# Altium integrated library mcu.IntLib: 53 symbols (part 1 of 3)
Pins are listed as number, name and electrical type; pins without a type are passive.

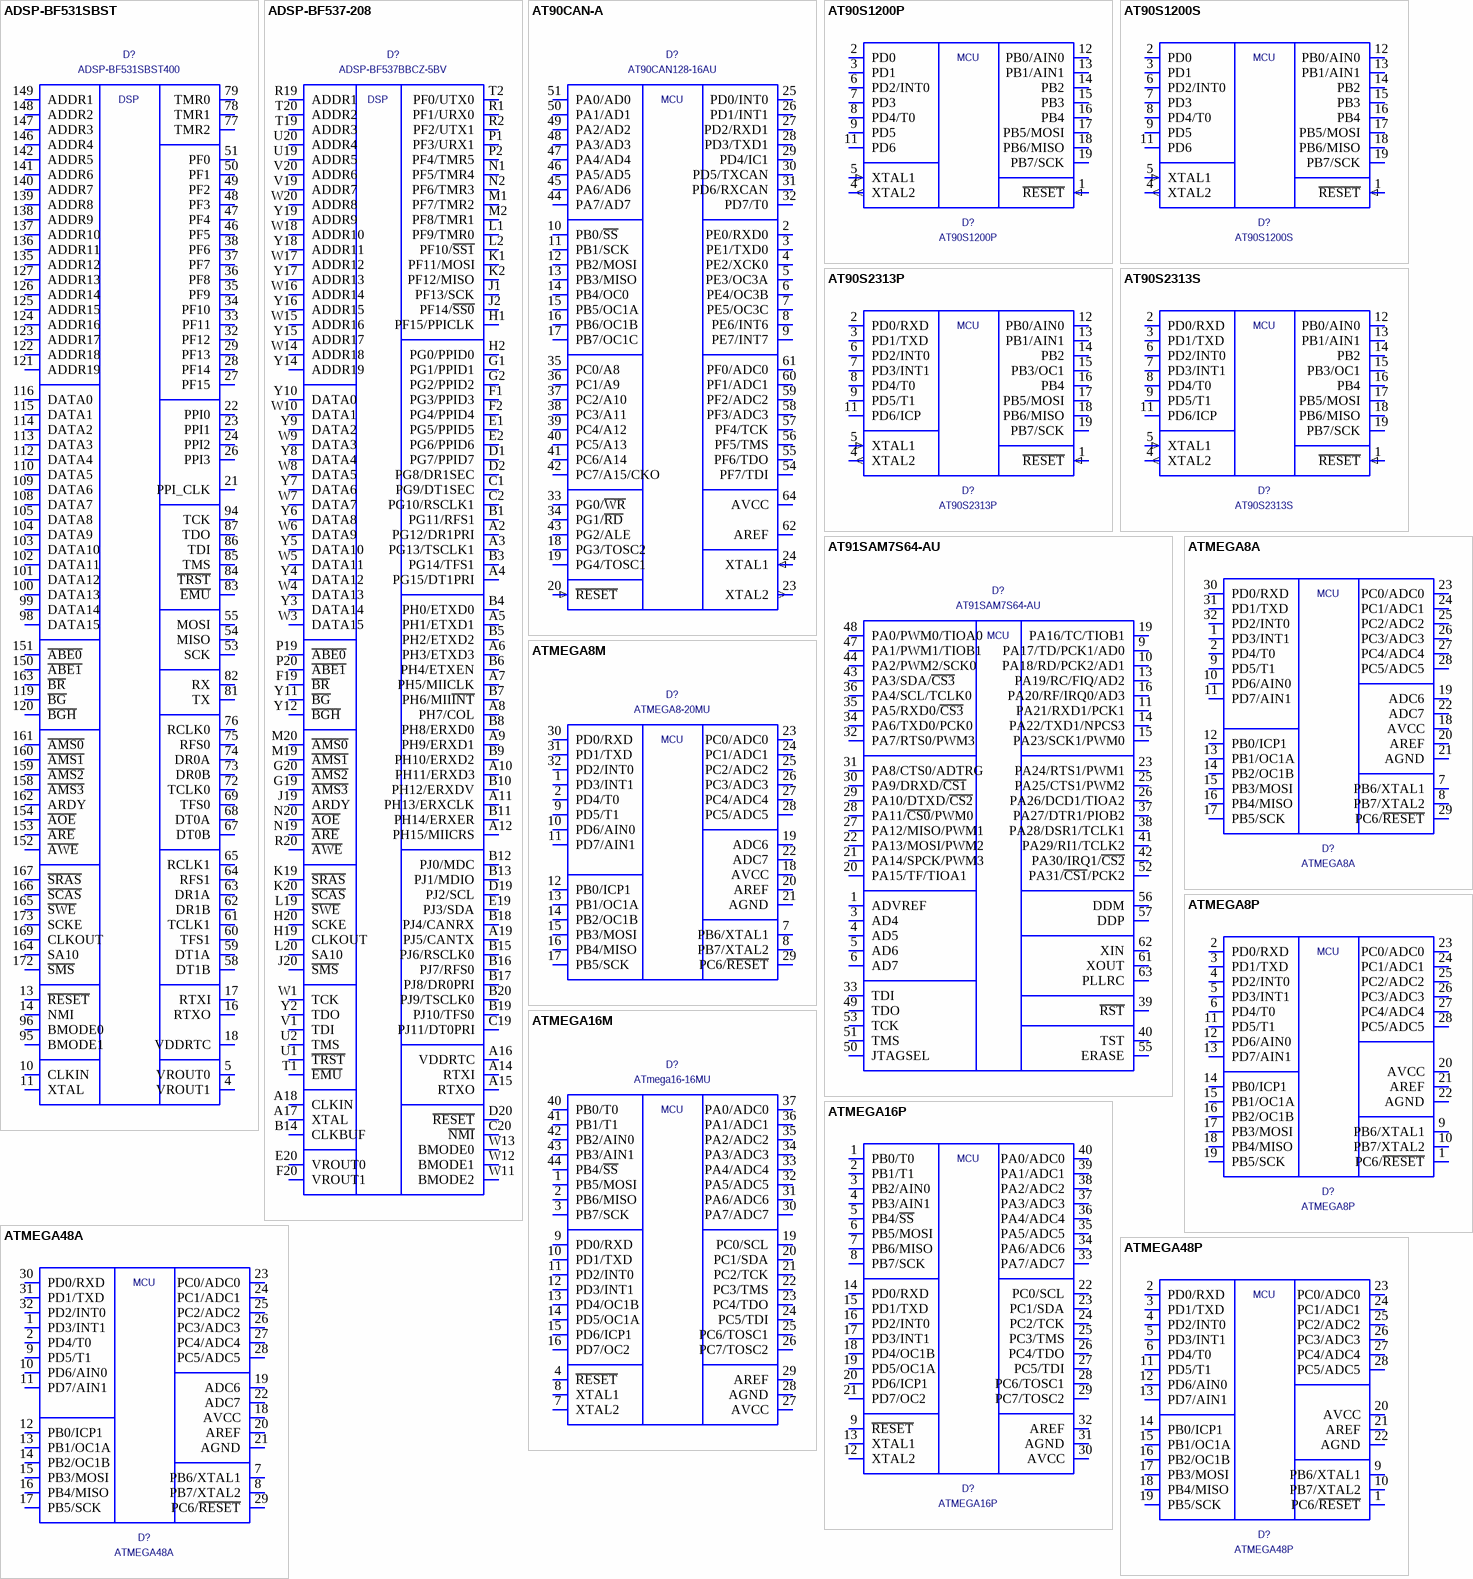
[diagram p0: symbols ADSP-BF531SBST to ATMEGA48P]

## ADSP-BF531SBST
designator D?  value ADSP-BF531SBST400  (hidden comment: ADSP-BF531SBST)
footprint LQFP176
pins: 1 GND (power) hidden, 2 GND (power) hidden, 3 GND (power) hidden, 4 VROUT1, 5 VROUT0, 6 VDDEXT (power) hidden, 7 GND (power) hidden, 8 GND (power) hidden, 9 GND (power) hidden, 10 CLKIN, 11 XTAL, 12 VDDEXT (power) hidden, 13 ~{RESET}, 14 NMI, 15 GND (power) hidden, 16 RTXO, 17 RTXI, 18 VDDRTC, 19 GND (power) hidden, 20 VDDEXT (power) hidden, 21 PPI_CLK, 22 PPI0, 23 PPI1, 24 PPI2, 25 VDDINT (power) hidden, 26 PPI3, 27 PF15, 28 PF14, 29 PF13, 30 GND (power) hidden, 31 VDDEXT (power) hidden, 32 PF12, 33 PF11, 34 PF10, 35 PF9, 36 PF8, 37 PF7, 38 PF6, 39 GND (power) hidden, 40 GND (power) hidden, 41 GND (power) hidden, 42 GND (power) hidden, 43 GND (power) hidden, 44 GND (power) hidden, 45 VDDEXT (power) hidden, 46 PF5, 47 PF4, 48 PF3, 49 PF2, 50 PF1, 51 PF0, 52 VDDINT (power) hidden, 53 SCK, 54 MISO, 55 MOSI, 56 GND (power) hidden, 57 VDDEXT (power) hidden, 58 DT1B, 59 DT1A, 60 TFS1, 61 TCLK1, 62 DR1B, 63 DR1A, 64 RFS1, 65 RCLK1, 66 VDDINT (power) hidden, 67 DT0B, 68 DT0A, 69 TFS0, 70 GND (power) hidden, 71 VDDEXT (power) hidden, 72 TCLK0, 73 DR0B, 74 DR0A, 75 RFS0, 76 RCLK0, 77 TMR2, 78 TMR1, 79 TMR0, 80 VDDINT (power) hidden, 81 TX, 82 RX, 83 ~{EMU}, 84 ~{TRST}, 85 TMS, 86 TDI, 87 TDO, 88 GND (power) hidden, 89 GND (power) hidden, 90 GND (power) hidden, 91 GND (power) hidden, 92 GND (power) hidden, 93 VDDEXT (power) hidden, 94 TCK, 95 BMODE1, 96 BMODE0, 97 GND (power) hidden, 98 DATA15, 99 DATA14, 100 DATA13, 101 DATA12, 102 DATA11, 103 DATA10, 104 DATA9, 105 DATA8, 106 GND (power) hidden, 107 VDDEXT (power) hidden, 108 DATA7, 109 DATA6, 110 DATA5, 111 VDDINT (power) hidden, 112 DATA4, 113 DATA3, 114 DATA2, 115 DATA1, 116 DATA0, 117 GND (power) hidden, 118 VDDEXT (power) hidden, 119 ~{BG}, 120 ~{BGH}, 121 ADDR19, 122 ADDR18, 123 ADDR17, 124 ADDR16, 125 ADDR15, 126 ADDR14, 127 ADDR13, 128 GND (power) hidden, 129 GND (power) hidden, 130 GND (power) hidden, 131 GND (power) hidden, 132 GND (power) hidden, 133 GND (power) hidden, 134 VDDEXT (power) hidden, 135 ADDR12, 136 ADDR11, 137 ADDR10, 138 ADDR9, 139 ADDR8, 140 ADDR7, 141 ADDR6, 142 ADDR5, 143 VDDINT (power) hidden, 144 GND (power) hidden, 145 VDDEXT (power) hidden, 146 ADDR4, 147 ADDR3, 148 ADDR2, 149 ADDR1, 150 ~{ABE1}, 151 ~{ABE0}, 152 ~{AWE}, 153 ~{ARE}, 154 ~{AOE}, 155 GND (power) hidden, 156 VDDEXT (power) hidden, 157 VDDINT (power) hidden, 158 ~{AMS3}, 159 ~{AMS2}, 160 ~{AMS1}, 161 ~{AMS0}, 162 ARDY, 163 ~{BR}, 164 SA10, 165 ~{SWE}, 166 ~{SCAS}, 167 ~{SRAS}, 168 VDDINT (power) hidden, 169 CLKOUT, 170 GND (power) hidden, 171 VDDEXT (power) hidden, 172 ~{SMS}, 173 SCKE, 174 GND (power) hidden, 175 GND (power) hidden, 176 GND (power) hidden
text: DSP

## ADSP-BF537-208
designator D?  value ADSP-BF537BBCZ-5BV  (hidden comment: ADSP-BF537-208)
footprint BC-208
pins: A1 GND (power) hidden, A2 PG12/DR1PRI, A3 PG13/TSCLK1, A4 PG15/DT1PRI, A5 PH1/ETXD1, A6 PH3/ETXD3, A7 PH5/MIICLK, A8 PH7/COL, A9 PH9/ERXD1, A10 PH11/ERXD3, A11 PH13/ERXCLK, A12 PH15/MIICRS, A13 GND (power) hidden, A14 RTXI, A15 RTXO, A16 VDDRTC, A17 XTAL, A18 CLKIN, A19 PJ5/CANTX, A20 GND (power) hidden, B1 PG11/RFS1, B2 GND (power) hidden, B3 PG14/TFS1, B4 PH0/ETXD0, B5 PH2/ETXD2, B6 PH4/ETXEN, B7 PH6/MII~{INT}, B8 PH8/ERXD0, B9 PH10/ERXD2, B10 PH12/ERXDV, B11 PH14/ERXER, B12 PJ0/MDC, B13 PJ1/MDIO, B14 CLKBUF, B15 PJ6/RSCLK0, B16 PJ7/RFS0, B17 PJ8/DR0PRI, B18 PJ4/CANRX, B19 PJ10/TFS0, B20 PJ9/TSCLK0, C1 PG9/DT1SEC, C2 PG10/RSCLK1, C19 PJ11/DT0PRI, C20 ~{NMI}, D1 PG7/PPID7, D2 PG8/DR1SEC, D19 PJ2/SCL, D20 ~{RESET}, E1 PG5/PPID5, E2 PG6/PPID6, E19 PJ3/SDA, E20 VROUT0, F1 PG3/PPID3, F2 PG4/PPID4, F19 ~{BR}, F20 VROUT1, G1 PG1/PPID1, G2 PG2/PPID2, G7 VDDEXT (power) hidden, G8 VDDEXT (power) hidden, G9 VDDEXT (power) hidden, G10 VDDEXT (power) hidden, G11 GND (power) hidden, G12 VDDINT (power) hidden, G13 VDDINT (power) hidden, G14 VDDINT (power) hidden, G19 ~{AMS3}, G20 ~{AMS2}, H1 PF15/PPICLK, H2 PG0/PPID0, H7 VDDEXT (power) hidden, H8 VDDEXT (power) hidden, H9 GND (power) hidden, H10 GND (power) hidden, H11 GND (power) hidden, H12 GND (power) hidden, H13 GND (power) hidden, H14 VDDINT (power) hidden, H19 CLKOUT, H20 SCKE, J1 PF13/SCK, J2 PF14/~{SS0}, J7 VDDEXT (power) hidden, J8 VDDEXT (power) hidden, J9 GND (power) hidden, J10 GND (power) hidden, J11 GND (power) hidden, J12 GND (power) hidden, J13 GND (power) hidden, J14 VDDINT (power) hidden, J19 ARDY, J20 ~{SMS}, K1 PF11/MOSI, K2 PF12/MISO, K7 VDDEXT (power) hidden, K8 VDDEXT (power) hidden, K9 GND (power) hidden, K10 GND (power) hidden, K11 GND (power) hidden, K12 GND (power) hidden, K13 GND (power) hidden, K14 VDDINT (power) hidden, K19 ~{SRAS}, K20 ~{SCAS}, L1 PF9/TMR0, L2 PF10/~{SS1}, L7 VDDEXT (power) hidden, L8 VDDEXT (power) hidden, L9 GND (power) hidden, L10 GND (power) hidden, L11 GND (power) hidden, L12 GND (power) hidden, L13 GND (power) hidden, L14 VDDINT (power) hidden, L19 ~{SWE}, L20 SA10, M1 PF7/TMR2, M2 PF8/TMR1, M7 VDDEXT (power) hidden, M8 VDDEXT (power) hidden, M9 GND (power) hidden, M10 GND (power) hidden, M11 GND (power) hidden, M12 GND (power) hidden, M13 GND (power) hidden, M14 VDDINT (power) hidden, M19 ~{AMS1}, M20 ~{AMS0}, N1 PF5/TMR4, N2 PF6/TMR3, N7 VDDEXT (power) hidden, N8 VDDEXT (power) hidden, N9 GND (power) hidden, N10 GND (power) hidden, N11 GND (power) hidden, N12 GND (power) hidden, N13 GND (power) hidden, N14 VDDINT (power) hidden, N19 ~{ARE}, N20 ~{AOE}, P1 PF3/URX1, P2 PF4/TMR5, P7 VDDEXT (power) hidden, P8 VDDEXT (power) hidden, P9 VDDEXT (power) hidden, P10 VDDEXT (power) hidden, P11 GND (power) hidden, P12 VDDINT (power) hidden, P13 VDDINT (power) hidden, P14 VDDINT (power) hidden, P19 ~{ABE0}, P20 ~{ABE1}, R1 PF1/URX0, R2 PF2/UTX1, R19 ADDR1, R20 ~{AWE}, T1 ~{EMU}, T2 PF0/UTX0, T19 ADDR3, T20 ADDR2, U1 ~{TRST}, U2 TMS, U19 ADDR5, U20 ADDR4, V1 TDI, V2 GND (power) hidden, V19 ADDR7, V20 ADDR6, W1 TCK, W2 GND (power) hidden, W3 DATA15, W4 DATA13, W5 DATA11, W6 DATA9, W7 DATA7, W8 DATA5, W9 DATA3, W10 DATA1, W11 BMODE2, W12 BMODE1, W13 BMODE0, W14 ADDR18, W15 ADDR16, W16 ADDR14, W17 ADDR12, W18 ADDR10, W19 GND (power) hidden, W20 ADDR8, Y1 GND (power) hidden, Y2 TDO, Y3 DATA14, Y4 DATA12, Y5 DATA10, Y6 DATA8, Y7 DATA6, Y8 DATA4, Y9 DATA2, Y10 DATA0, Y11 ~{BG}, Y12 ~{BGH}, Y13 GND (power) hidden, Y14 ADDR19, Y15 ADDR17, Y16 ADDR15, Y17 ADDR13, Y18 ADDR11, Y19 ADDR9, Y20 GND (power) hidden
text: DSP

## AT90CAN-A
designator D?  value AT90CAN128-16AU  (hidden comment: AT90CAN-A)
footprint TQFP64
pins: 1 hidden, 2 PE0/RXD0 (io), 3 PE1/TXD0 (io), 4 PE2/XCK0 (io), 5 PE3/OC3A (io), 6 PE4/OC3B (io), 7 PE5/OC3C (io), 8 PE6/INT6 (io), 9 PE7/INT7 (io), 10 PB0/~{SS} (io), 11 PB1/SCK (io), 12 PB2/MOSI (io), 13 PB3/MISO (io), 14 PB4/OC0 (io), 15 PB5/OC1A (io), 16 PB6/OC1B (io), 17 PB7/OC1C (io), 18 PG3/TOSC2 (io), 19 PG4/TOSC1 (io), 20 ~{RESET} (in), 21 VCC (power) hidden, 22 GND (power) hidden, 23 XTAL2 (out), 24 XTAL1 (in), 25 PD0/INT0 (io), 26 PD1/INT1 (io), 27 PD2/RXD1 (io), 28 PD3/TXD1 (io), 29 PD4/IC1 (io), 30 PD5/TXCAN (io), 31 PD6/RXCAN (io), 32 PD7/T0 (io), 33 PG0/~{WR} (io), 34 PG1/~{RD} (io), 35 PC0/A8 (io), 36 PC1/A9 (io), 37 PC2/A10 (io), 38 PC3/A11 (io), 39 PC4/A12 (io), 40 PC5/A13 (io), 41 PC6/A14 (io), 42 PC7/A15/CKO (io), 43 PG2/ALE (io), 44 PA7/AD7 (io), 45 PA6/AD6 (io), 46 PA5/AD5 (io), 47 PA4/AD4 (io), 48 PA3/AD3 (io), 49 PA2/AD2 (io), 50 PA1/AD1 (io), 51 PA0/AD0 (io), 52 VCC (power) hidden, 53 GND (power) hidden, 54 PF7/TDI (io), 55 PF6/TDO (io), 56 PF5/TMS (io), 57 PF4/TCK (io), 58 PF3/ADC3 (io), 59 PF2/ADC2 (io), 60 PF1/ADC1 (io), 61 PF0/ADC0 (io), 62 AREF, 63 GND (power) hidden, 64 AVCC
text: MCU

## AT90S1200P
designator D?
Value: {Value}
footprint DIP20
pins: 1 ~{RESET} (in), 2 PD0 (io), 3 PD1 (io), 4 XTAL2 (out), 5 XTAL1 (in), 6 PD2/INT0 (io), 7 PD3 (io), 8 PD4/T0 (io), 9 PD5 (io), 10 GND (power) hidden, 11 PD6 (io), 12 PB0/AIN0 (io), 13 PB1/AIN1 (io), 14 PB2 (io), 15 PB3 (io), 16 PB4 (io), 17 PB5/MOSI (io), 18 PB6/MISO (io), 19 PB7/SCK (io), 20 VCC (power) hidden
text: MCU

## AT90S1200S
designator D?
Value: {Value}
footprint SO20W
pins: 1 ~{RESET} (in), 2 PD0 (io), 3 PD1 (io), 4 XTAL2 (out), 5 XTAL1 (in), 6 PD2/INT0 (io), 7 PD3 (io), 8 PD4/T0 (io), 9 PD5 (io), 10 GND (power) hidden, 11 PD6 (io), 12 PB0/AIN0 (io), 13 PB1/AIN1 (io), 14 PB2 (io), 15 PB3 (io), 16 PB4 (io), 17 PB5/MOSI (io), 18 PB6/MISO (io), 19 PB7/SCK (io), 20 VCC (power) hidden
text: MCU

## AT90S2313P
designator D?
Value: {Value}
footprint DIP20
pins: 1 ~{RESET} (in), 2 PD0/RXD (io), 3 PD1/TXD (io), 4 XTAL2 (out), 5 XTAL1 (in), 6 PD2/INT0 (io), 7 PD3/INT1 (io), 8 PD4/T0 (io), 9 PD5/T1 (io), 10 GND (power) hidden, 11 PD6/ICP (io), 12 PB0/AIN0 (io), 13 PB1/AIN1 (io), 14 PB2 (io), 15 PB3/OC1 (io), 16 PB4 (io), 17 PB5/MOSI (io), 18 PB6/MISO (io), 19 PB7/SCK (io), 20 VCC (power) hidden
text: MCU

## AT90S2313S
designator D?
Value: {Value}
footprint SO20W
pins: 1 ~{RESET} (in), 2 PD0/RXD (io), 3 PD1/TXD (io), 4 XTAL2 (out), 5 XTAL1 (in), 6 PD2/INT0 (io), 7 PD3/INT1 (io), 8 PD4/T0 (io), 9 PD5/T1 (io), 10 GND (power) hidden, 11 PD6/ICP (io), 12 PB0/AIN0 (io), 13 PB1/AIN1 (io), 14 PB2 (io), 15 PB3/OC1 (io), 16 PB4 (io), 17 PB5/MOSI (io), 18 PB6/MISO (io), 19 PB7/SCK (io), 20 VCC (power) hidden
text: MCU

## AT91SAM7S64-AU
designator D?
Value: AT91SAM7S64-AU
footprint LQFP64
pins: 1 ADVREF, 2 GND (power) hidden, 3 AD4, 4 AD5, 5 AD6, 6 AD7, 7 VIO (power) hidden, 8 VCORE (power) hidden, 9 PA17/TD/PCK1/AD0, 10 PA18/RD/PCK2/AD1, 11 PA21/RXD1/PCK1, 12 VCORE (power) hidden, 13 PA19/RC/FIQ/AD2, 14 PA22/TXD1/NPCS3, 15 PA23/SCK1/PWM0, 16 PA20/RF/IRQ0/AD3, 17 GND (power) hidden, 18 VIO (power) hidden, 19 PA16/TC/TIOB1, 20 PA15/TF/TIOA1, 21 PA14/SPCK/PWM3, 22 PA13/MOSI/PWM2, 23 PA24/RTS1/PWM1, 24 VCORE (power) hidden, 25 PA25/CTS1/PWM2, 26 PA26/DCD1/TIOA2, 27 PA12/MISO/PWM1, 28 PA11/~{CS0}/PWM0, 29 PA10/DTXD/~{CS2}, 30 PA9/DRXD/~{CS1}, 31 PA8/CTS0/ADTRG, 32 PA7/RTS0/PWM3, 33 TDI, 34 PA6/TXD0/PCK0, 35 PA5/RXD0/~{CS3}, 36 PA4/SCL/TCLK0, 37 PA27/DTR1/PIOB2, 38 PA28/DSR1/TCLK1, 39 ~{RST}, 40 TST, 41 PA29/RI1/TCLK2, 42 PA30/IRQ1/~{CS2}, 43 PA3/SDA/~{CS3}, 44 PA2/PWM2/SCK0, 45 VIO (power) hidden, 46 GND (power) hidden, 47 PA1/PWM1/TIOB1, 48 PA0/PWM0/TIOA0, 49 TDO, 50 JTAGSEL, 51 TMS, 52 PA31/~{CS1}/PCK2, 53 TCK, 54 VCORE (power) hidden, 55 ERASE, 56 DDM, 57 DDP, 58 VIO (power) hidden, 59 VIO (power) hidden, 60 GND (power) hidden, 61 XOUT, 62 XIN, 63 PLLRC, 64 VCORE (power) hidden
text: MCU

## ATMEGA8A
designator D?
Value: {Value}
footprint TQFP32
pins: 1 PD3/INT1, 2 PD4/T0, 3 GND (power) hidden, 4 VCC (power) hidden, 5 GND (power) hidden, 6 VCC (power) hidden, 7 PB6/XTAL1, 8 PB7/XTAL2, 9 PD5/T1, 10 PD6/AIN0, 11 PD7/AIN1, 12 PB0/ICP1, 13 PB1/OC1A, 14 PB2/OC1B, 15 PB3/MOSI, 16 PB4/MISO, 17 PB5/SCK, 18 AVCC, 19 ADC6, 20 AREF, 21 AGND, 22 ADC7, 23 PC0/ADC0, 24 PC1/ADC1, 25 PC2/ADC2, 26 PC3/ADC3, 27 PC4/ADC4, 28 PC5/ADC5, 29 PC6/~{RESET}, 30 PD0/RXD, 31 PD1/TXD, 32 PD2/INT0
text: MCU

## ATMEGA8M
designator D?, comment ATMEGA8-20MU
ATMEGA8M; Value: ATMEGA8-20MU
footprint MLF32
pins: 1 PD3/INT1, 2 PD4/T0, 3 GND (power) hidden, 4 VCC (power) hidden, 5 GND (power) hidden, 6 VCC (power) hidden, 7 PB6/XTAL1, 8 PB7/XTAL2, 9 PD5/T1, 10 PD6/AIN0, 11 PD7/AIN1, 12 PB0/ICP1, 13 PB1/OC1A, 14 PB2/OC1B, 15 PB3/MOSI, 16 PB4/MISO, 17 PB5/SCK, 18 AVCC, 19 ADC6, 20 AREF, 21 AGND, 22 ADC7, 23 PC0/ADC0, 24 PC1/ADC1, 25 PC2/ADC2, 26 PC3/ADC3, 27 PC4/ADC4, 28 PC5/ADC5, 29 PC6/~{RESET}, 30 PD0/RXD, 31 PD1/TXD, 32 PD2/INT0, EP GND (power) hidden
text: MCU

## ATMEGA8P
designator D?
Value: {Value}
footprint DIP28L
pins: 1 PC6/~{RESET}, 2 PD0/RXD, 3 PD1/TXD, 4 PD2/INT0, 5 PD3/INT1, 6 PD4/T0, 7 VCC (power) hidden, 8 GND (power) hidden, 9 PB6/XTAL1, 10 PB7/XTAL2, 11 PD5/T1, 12 PD6/AIN0, 13 PD7/AIN1, 14 PB0/ICP1, 15 PB1/OC1A, 16 PB2/OC1B, 17 PB3/MOSI, 18 PB4/MISO, 19 PB5/SCK, 20 AVCC, 21 AREF, 22 AGND, 23 PC0/ADC0, 24 PC1/ADC1, 25 PC2/ADC2, 26 PC3/ADC3, 27 PC4/ADC4, 28 PC5/ADC5
text: MCU

## ATMEGA16M
designator D?, comment ATmega16-16MU
ATMEGA16M; Value: ATmega16-16MU
footprint MLF44
pins: 1 PB5/MOSI, 2 PB6/MISO, 3 PB7/SCK, 4 ~{RESET}, 5 VCC (power) hidden, 6 GND (power) hidden, 7 XTAL2, 8 XTAL1, 9 PD0/RXD, 10 PD1/TXD, 11 PD2/INT0, 12 PD3/INT1, 13 PD4/OC1B, 14 PD5/OC1A, 15 PD6/ICP1, 16 PD7/OC2, 17 VCC (power) hidden, 18 GND (power) hidden, 19 PC0/SCL, 20 PC1/SDA, 21 PC2/TCK, 22 PC3/TMS, 23 PC4/TDO, 24 PC5/TDI, 25 PC6/TOSC1, 26 PC7/TOSC2, 27 AVCC, 28 AGND, 29 AREF, 30 PA7/ADC7, 31 PA6/ADC6, 32 PA5/ADC5, 33 PA4/ADC4, 34 PA3/ADC3, 35 PA2/ADC2, 36 PA1/ADC1, 37 PA0/ADC0, 38 VCC (power) hidden, 39 GND (power) hidden, 40 PB0/T0, 41 PB1/T1, 42 PB2/AIN0, 43 PB3/AIN1, 44 PB4/~{SS}, EP GND (power) hidden
text: MCU

## ATMEGA16P
designator D?
Value: {Value}
footprint DIP40
pins: 1 PB0/T0, 2 PB1/T1, 3 PB2/AIN0, 4 PB3/AIN1, 5 PB4/~{SS}, 6 PB5/MOSI, 7 PB6/MISO, 8 PB7/SCK, 9 ~{RESET}, 10 VCC (power) hidden, 11 GND (power) hidden, 12 XTAL2, 13 XTAL1, 14 PD0/RXD, 15 PD1/TXD, 16 PD2/INT0, 17 PD3/INT1, 18 PD4/OC1B, 19 PD5/OC1A, 20 PD6/ICP1, 21 PD7/OC2, 22 PC0/SCL, 23 PC1/SDA, 24 PC2/TCK, 25 PC3/TMS, 26 PC4/TDO, 27 PC5/TDI, 28 PC6/TOSC1, 29 PC7/TOSC2, 30 AVCC, 31 AGND, 32 AREF, 33 PA7/ADC7, 34 PA6/ADC6, 35 PA5/ADC5, 36 PA4/ADC4, 37 PA3/ADC3, 38 PA2/ADC2, 39 PA1/ADC1, 40 PA0/ADC0
text: MCU

## ATMEGA48A
designator D?
Value: ATmega48A
footprint TQFP32
pins: 1 PD3/INT1, 2 PD4/T0, 3 GND (power) hidden, 4 VCC (power) hidden, 5 GND (power) hidden, 6 VCC (power) hidden, 7 PB6/XTAL1, 8 PB7/XTAL2, 9 PD5/T1, 10 PD6/AIN0, 11 PD7/AIN1, 12 PB0/ICP1, 13 PB1/OC1A, 14 PB2/OC1B, 15 PB3/MOSI, 16 PB4/MISO, 17 PB5/SCK, 18 AVCC, 19 ADC6, 20 AREF, 21 AGND, 22 ADC7, 23 PC0/ADC0, 24 PC1/ADC1, 25 PC2/ADC2, 26 PC3/ADC3, 27 PC4/ADC4, 28 PC5/ADC5, 29 PC6/~{RESET}, 30 PD0/RXD, 31 PD1/TXD, 32 PD2/INT0
text: MCU

## ATMEGA48P
designator D?
Value: ATmega48P
footprint DIP28L
pins: 1 PC6/~{RESET}, 2 PD0/RXD, 3 PD1/TXD, 4 PD2/INT0, 5 PD3/INT1, 6 PD4/T0, 7 VCC (power) hidden, 8 GND (power) hidden, 9 PB6/XTAL1, 10 PB7/XTAL2, 11 PD5/T1, 12 PD6/AIN0, 13 PD7/AIN1, 14 PB0/ICP1, 15 PB1/OC1A, 16 PB2/OC1B, 17 PB3/MOSI, 18 PB4/MISO, 19 PB5/SCK, 20 AVCC, 21 AREF, 22 AGND, 23 PC0/ADC0, 24 PC1/ADC1, 25 PC2/ADC2, 26 PC3/ADC3, 27 PC4/ADC4, 28 PC5/ADC5
text: MCU

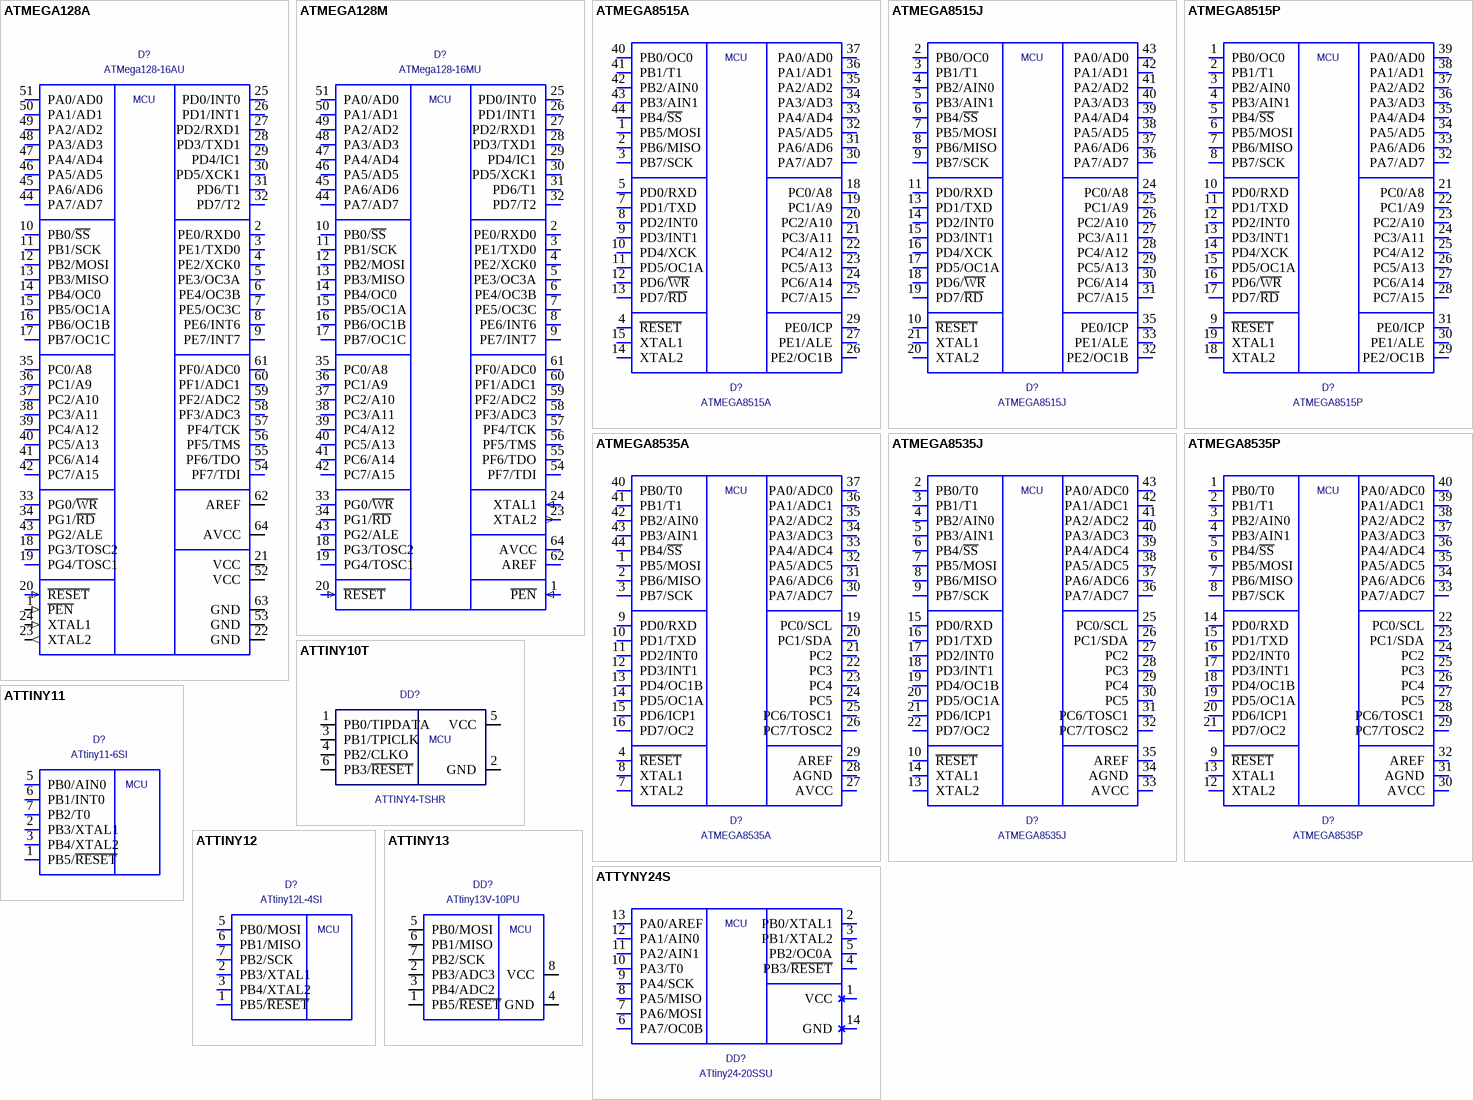
[diagram p1: symbols ATMEGA128A to ATTYNY24S]

## ATMEGA128A
designator D?, comment ATMega128-16AU
ATMEGA128A; Value: ATMega128-16AU
footprint TQFP64
pins: 1 ~{PEN} (in), 2 PE0/RXD0 (io), 3 PE1/TXD0 (io), 4 PE2/XCK0 (io), 5 PE3/OC3A (io), 6 PE4/OC3B (io), 7 PE5/OC3C (io), 8 PE6/INT6 (io), 9 PE7/INT7 (io), 10 PB0/~{SS} (io), 11 PB1/SCK (io), 12 PB2/MOSI (io), 13 PB3/MISO (io), 14 PB4/OC0 (io), 15 PB5/OC1A (io), 16 PB6/OC1B (io), 17 PB7/OC1C (io), 18 PG3/TOSC2 (io), 19 PG4/TOSC1 (io), 20 ~{RESET} (in), 21 VCC (power), 22 GND (power), 23 XTAL2 (out), 24 XTAL1 (in), 25 PD0/INT0 (io), 26 PD1/INT1 (io), 27 PD2/RXD1 (io), 28 PD3/TXD1 (io), 29 PD4/IC1 (io), 30 PD5/XCK1 (io), 31 PD6/T1 (io), 32 PD7/T2 (io), 33 PG0/~{WR} (io), 34 PG1/~{RD} (io), 35 PC0/A8 (io), 36 PC1/A9 (io), 37 PC2/A10 (io), 38 PC3/A11 (io), 39 PC4/A12 (io), 40 PC5/A13 (io), 41 PC6/A14 (io), 42 PC7/A15 (io), 43 PG2/ALE (io), 44 PA7/AD7 (io), 45 PA6/AD6 (io), 46 PA5/AD5 (io), 47 PA4/AD4 (io), 48 PA3/AD3 (io), 49 PA2/AD2 (io), 50 PA1/AD1 (io), 51 PA0/AD0 (io), 52 VCC (power), 53 GND (power), 54 PF7/TDI (io), 55 PF6/TDO (io), 56 PF5/TMS (io), 57 PF4/TCK (io), 58 PF3/ADC3 (io), 59 PF2/ADC2 (io), 60 PF1/ADC1 (io), 61 PF0/ADC0 (io), 62 AREF, 63 GND (power), 64 AVCC
text: MCU

## ATMEGA128M
designator D?, comment ATMega128-16MU
ATMEGA128M; Value: ATMega128-16MU
footprint MLF64
pins: 1 ~{PEN} (in), 2 PE0/RXD0 (io), 3 PE1/TXD0 (io), 4 PE2/XCK0 (io), 5 PE3/OC3A (io), 6 PE4/OC3B (io), 7 PE5/OC3C (io), 8 PE6/INT6 (io), 9 PE7/INT7 (io), 10 PB0/~{SS} (io), 11 PB1/SCK (io), 12 PB2/MOSI (io), 13 PB3/MISO (io), 14 PB4/OC0 (io), 15 PB5/OC1A (io), 16 PB6/OC1B (io), 17 PB7/OC1C (io), 18 PG3/TOSC2 (io), 19 PG4/TOSC1 (io), 20 ~{RESET} (in), 21 VCC (power) hidden, 22 GND (power) hidden, 23 XTAL2 (out), 24 XTAL1 (in), 25 PD0/INT0 (io), 26 PD1/INT1 (io), 27 PD2/RXD1 (io), 28 PD3/TXD1 (io), 29 PD4/IC1 (io), 30 PD5/XCK1 (io), 31 PD6/T1 (io), 32 PD7/T2 (io), 33 PG0/~{WR} (io), 34 PG1/~{RD} (io), 35 PC0/A8 (io), 36 PC1/A9 (io), 37 PC2/A10 (io), 38 PC3/A11 (io), 39 PC4/A12 (io), 40 PC5/A13 (io), 41 PC6/A14 (io), 42 PC7/A15 (io), 43 PG2/ALE (io), 44 PA7/AD7 (io), 45 PA6/AD6 (io), 46 PA5/AD5 (io), 47 PA4/AD4 (io), 48 PA3/AD3 (io), 49 PA2/AD2 (io), 50 PA1/AD1 (io), 51 PA0/AD0 (io), 52 VCC (power) hidden, 53 GND (power) hidden, 54 PF7/TDI (io), 55 PF6/TDO (io), 56 PF5/TMS (io), 57 PF4/TCK (io), 58 PF3/ADC3 (io), 59 PF2/ADC2 (io), 60 PF1/ADC1 (io), 61 PF0/ADC0 (io), 62 AREF, 63 GND (power) hidden, 64 AVCC, EP GND (power) hidden
text: MCU

## ATMEGA8515A
designator D?
Value: {Value}
footprint TQFP44
pins: 1 PB5/MOSI, 2 PB6/MISO, 3 PB7/SCK, 4 ~{RESET}, 5 PD0/RXD, 6 hidden, 7 PD1/TXD, 8 PD2/INT0, 9 PD3/INT1, 10 PD4/XCK, 11 PD5/OC1A, 12 PD6/~{WR}, 13 PD7/~{RD}, 14 XTAL2, 15 XTAL1, 16 GND (power) hidden, 17 hidden, 18 PC0/A8, 19 PC1/A9, 20 PC2/A10, 21 PC3/A11, 22 PC4/A12, 23 PC5/A13, 24 PC6/A14, 25 PC7/A15, 26 PE2/OC1B, 27 PE1/ALE, 28 hidden, 29 PE0/ICP, 30 PA7/AD7, 31 PA6/AD6, 32 PA5/AD5, 33 PA4/AD4, 34 PA3/AD3, 35 PA2/AD2, 36 PA1/AD1, 37 PA0/AD0, 38 VCC (power) hidden, 39 hidden, 40 PB0/OC0, 41 PB1/T1, 42 PB2/AIN0, 43 PB3/AIN1, 44 PB4/~{SS}
text: MCU

## ATMEGA8515J
designator D?
Value: {Value}
footprint PLCC44
pins: 1 hidden, 2 PB0/OC0, 3 PB1/T1, 4 PB2/AIN0, 5 PB3/AIN1, 6 PB4/~{SS}, 7 PB5/MOSI, 8 PB6/MISO, 9 PB7/SCK, 10 ~{RESET}, 11 PD0/RXD, 12 hidden, 13 PD1/TXD, 14 PD2/INT0, 15 PD3/INT1, 16 PD4/XCK, 17 PD5/OC1A, 18 PD6/~{WR}, 19 PD7/~{RD}, 20 XTAL2, 21 XTAL1, 22 GND (power) hidden, 23 hidden, 24 PC0/A8, 25 PC1/A9, 26 PC2/A10, 27 PC3/A11, 28 PC4/A12, 29 PC5/A13, 30 PC6/A14, 31 PC7/A15, 32 PE2/OC1B, 33 PE1/ALE, 34 hidden, 35 PE0/ICP, 36 PA7/AD7, 37 PA6/AD6, 38 PA5/AD5, 39 PA4/AD4, 40 PA3/AD3, 41 PA2/AD2, 42 PA1/AD1, 43 PA0/AD0, 44 VCC (power) hidden
text: MCU

## ATMEGA8515P
designator D?
Value: {Value}
footprint DIP40
pins: 1 PB0/OC0, 2 PB1/T1, 3 PB2/AIN0, 4 PB3/AIN1, 5 PB4/~{SS}, 6 PB5/MOSI, 7 PB6/MISO, 8 PB7/SCK, 9 ~{RESET}, 10 PD0/RXD, 11 PD1/TXD, 12 PD2/INT0, 13 PD3/INT1, 14 PD4/XCK, 15 PD5/OC1A, 16 PD6/~{WR}, 17 PD7/~{RD}, 18 XTAL2, 19 XTAL1, 20 GND (power) hidden, 21 PC0/A8, 22 PC1/A9, 23 PC2/A10, 24 PC3/A11, 25 PC4/A12, 26 PC5/A13, 27 PC6/A14, 28 PC7/A15, 29 PE2/OC1B, 30 PE1/ALE, 31 PE0/ICP, 32 PA7/AD7, 33 PA6/AD6, 34 PA5/AD5, 35 PA4/AD4, 36 PA3/AD3, 37 PA2/AD2, 38 PA1/AD1, 39 PA0/AD0, 40 VCC (power) hidden
text: MCU

## ATMEGA8535A
designator D?
Value: {Value}
footprint TQFP44
pins: 1 PB5/MOSI, 2 PB6/MISO, 3 PB7/SCK, 4 ~{RESET}, 5 VCC (power) hidden, 6 GND (power) hidden, 7 XTAL2, 8 XTAL1, 9 PD0/RXD, 10 PD1/TXD, 11 PD2/INT0, 12 PD3/INT1, 13 PD4/OC1B, 14 PD5/OC1A, 15 PD6/ICP1, 16 PD7/OC2, 17 VCC (power) hidden, 18 GND (power) hidden, 19 PC0/SCL, 20 PC1/SDA, 21 PC2, 22 PC3, 23 PC4, 24 PC5, 25 PC6/TOSC1, 26 PC7/TOSC2, 27 AVCC, 28 AGND, 29 AREF, 30 PA7/ADC7, 31 PA6/ADC6, 32 PA5/ADC5, 33 PA4/ADC4, 34 PA3/ADC3, 35 PA2/ADC2, 36 PA1/ADC1, 37 PA0/ADC0, 38 VCC (power) hidden, 39 GND (power) hidden, 40 PB0/T0, 41 PB1/T1, 42 PB2/AIN0, 43 PB3/AIN1, 44 PB4/~{SS}
text: MCU

## ATMEGA8535J
designator D?
Value: {Value}
footprint PLCC44
pins: 1 GND (power) hidden, 2 PB0/T0, 3 PB1/T1, 4 PB2/AIN0, 5 PB3/AIN1, 6 PB4/~{SS}, 7 PB5/MOSI, 8 PB6/MISO, 9 PB7/SCK, 10 ~{RESET}, 11 VCC (power) hidden, 12 GND (power) hidden, 13 XTAL2, 14 XTAL1, 15 PD0/RXD, 16 PD1/TXD, 17 PD2/INT0, 18 PD3/INT1, 19 PD4/OC1B, 20 PD5/OC1A, 21 PD6/ICP1, 22 PD7/OC2, 23 VCC (power) hidden, 24 GND (power) hidden, 25 PC0/SCL, 26 PC1/SDA, 27 PC2, 28 PC3, 29 PC4, 30 PC5, 31 PC6/TOSC1, 32 PC7/TOSC2, 33 AVCC, 34 AGND, 35 AREF, 36 PA7/ADC7, 37 PA6/ADC6, 38 PA5/ADC5, 39 PA4/ADC4, 40 PA3/ADC3, 41 PA2/ADC2, 42 PA1/ADC1, 43 PA0/ADC0, 44 VCC (power) hidden
text: MCU

## ATMEGA8535P
designator D?
Value: {Value}
footprint DIP40
pins: 1 PB0/T0, 2 PB1/T1, 3 PB2/AIN0, 4 PB3/AIN1, 5 PB4/~{SS}, 6 PB5/MOSI, 7 PB6/MISO, 8 PB7/SCK, 9 ~{RESET}, 10 VCC (power) hidden, 11 GND (power) hidden, 12 XTAL2, 13 XTAL1, 14 PD0/RXD, 15 PD1/TXD, 16 PD2/INT0, 17 PD3/INT1, 18 PD4/OC1B, 19 PD5/OC1A, 20 PD6/ICP1, 21 PD7/OC2, 22 PC0/SCL, 23 PC1/SDA, 24 PC2, 25 PC3, 26 PC4, 27 PC5, 28 PC6/TOSC1, 29 PC7/TOSC2, 30 AVCC, 31 AGND, 32 AREF, 33 PA7/ADC7, 34 PA6/ADC6, 35 PA5/ADC5, 36 PA4/ADC4, 37 PA3/ADC3, 38 PA2/ADC2, 39 PA1/ADC1, 40 PA0/ADC0
text: MCU

## ATTINY10T
designator DD?, comment ATTINY4-TSHR
ATTINY10T; Value: ATTINY4-TSHR
footprint SOT-23-6 (0.95mm pitch)
pins: 1 PB0/TIPDATA (io), 2 GND (power), 3 PB1/TPICLK (io), 4 PB2/CLKO (io), 5 VCC (power), 6 PB3/~{RESET} (io)
text: MCU

## ATTINY11
designator D?  value ATtiny11-6SI  (hidden comment: ATTINY11)
footprint SO8
pins: 1 PB5/~{RESET}, 2 PB3/XTAL1, 3 PB4/XTAL2, 4 GND (power) hidden, 5 PB0/AIN0, 6 PB1/INT0, 7 PB2/T0, 8 VCC (power) hidden
text: MCU

## ATTINY12
designator D?  value ATtiny12L-4SI  (hidden comment: ATTINY12)
footprint SO8
pins: 1 PB5/~{RESET}, 2 PB3/XTAL1, 3 PB4/XTAL2, 4 GND (power) hidden, 5 PB0/MOSI, 6 PB1/MISO, 7 PB2/SCK, 8 VCC (power) hidden
text: MCU

## ATTINY13
designator DD?  value ATtiny13V-10PU  (hidden comment: ATTINY13)
ATTINY13VCC
footprint DIP8
pins: 1 PB5/~{RESET} (io), 2 PB3/ADC3 (io), 3 PB4/ADC2 (io), 4 GND (power), 5 PB0/MOSI (io), 6 PB1/MISO (io), 7 PB2/SCK (io), 8 VCC (power)
text: MCU

## ATTYNY24S
designator DD?  value ATtiny24-20SSU  (hidden comment: ATTYNY24S)
footprint SO14
pins: 1 VCC (power), 2 PB0/XTAL1, 3 PB1/XTAL2, 4 PB3/~{RESET}, 5 PB2/OC0A, 6 PA7/OC0B, 7 PA6/MOSI, 8 PA5/MISO, 9 PA4/SCK, 10 PA3/T0, 11 PA2/AIN1, 12 PA1/AIN0, 13 PA0/AREF, 14 GND (power)
text: MCU

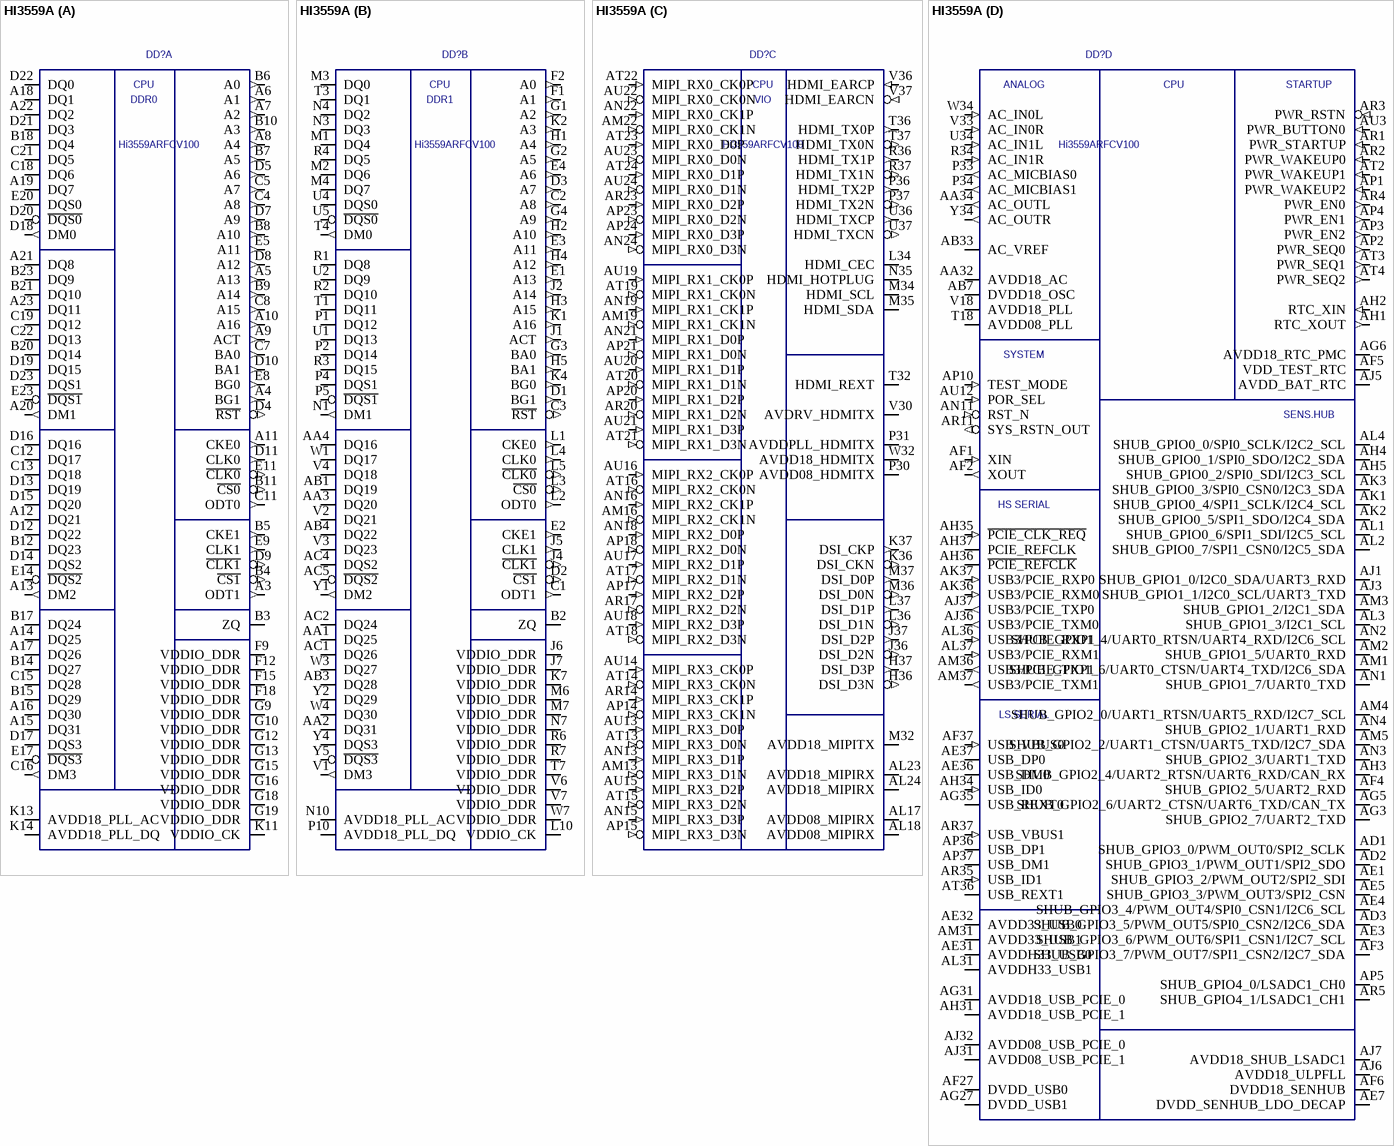
[diagram p2: symbol HI3559A]

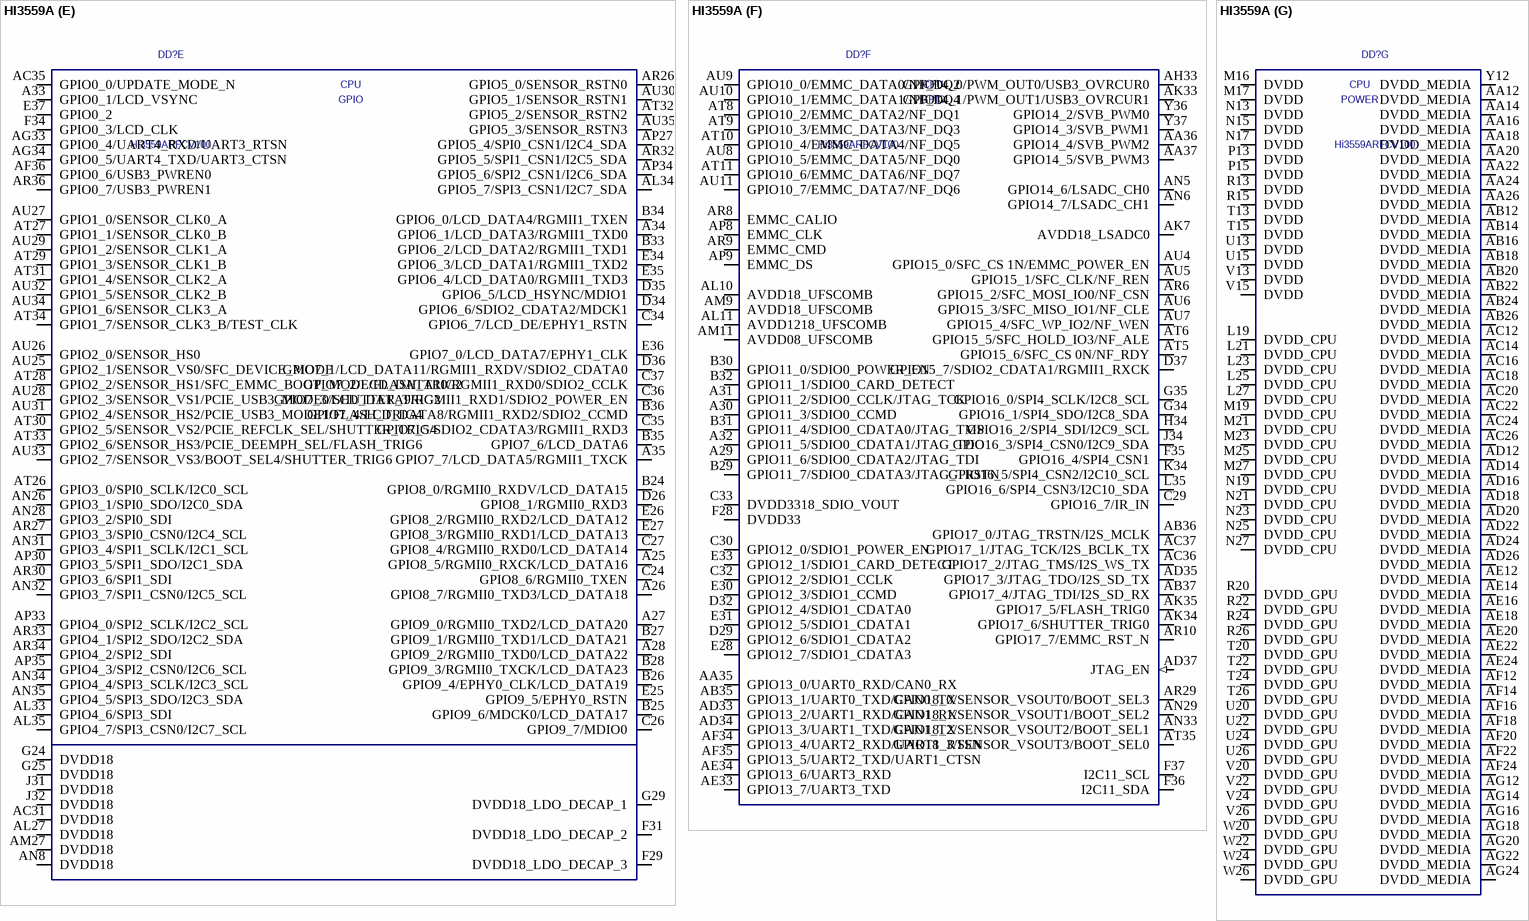
[diagram p3: symbol HI3559A]

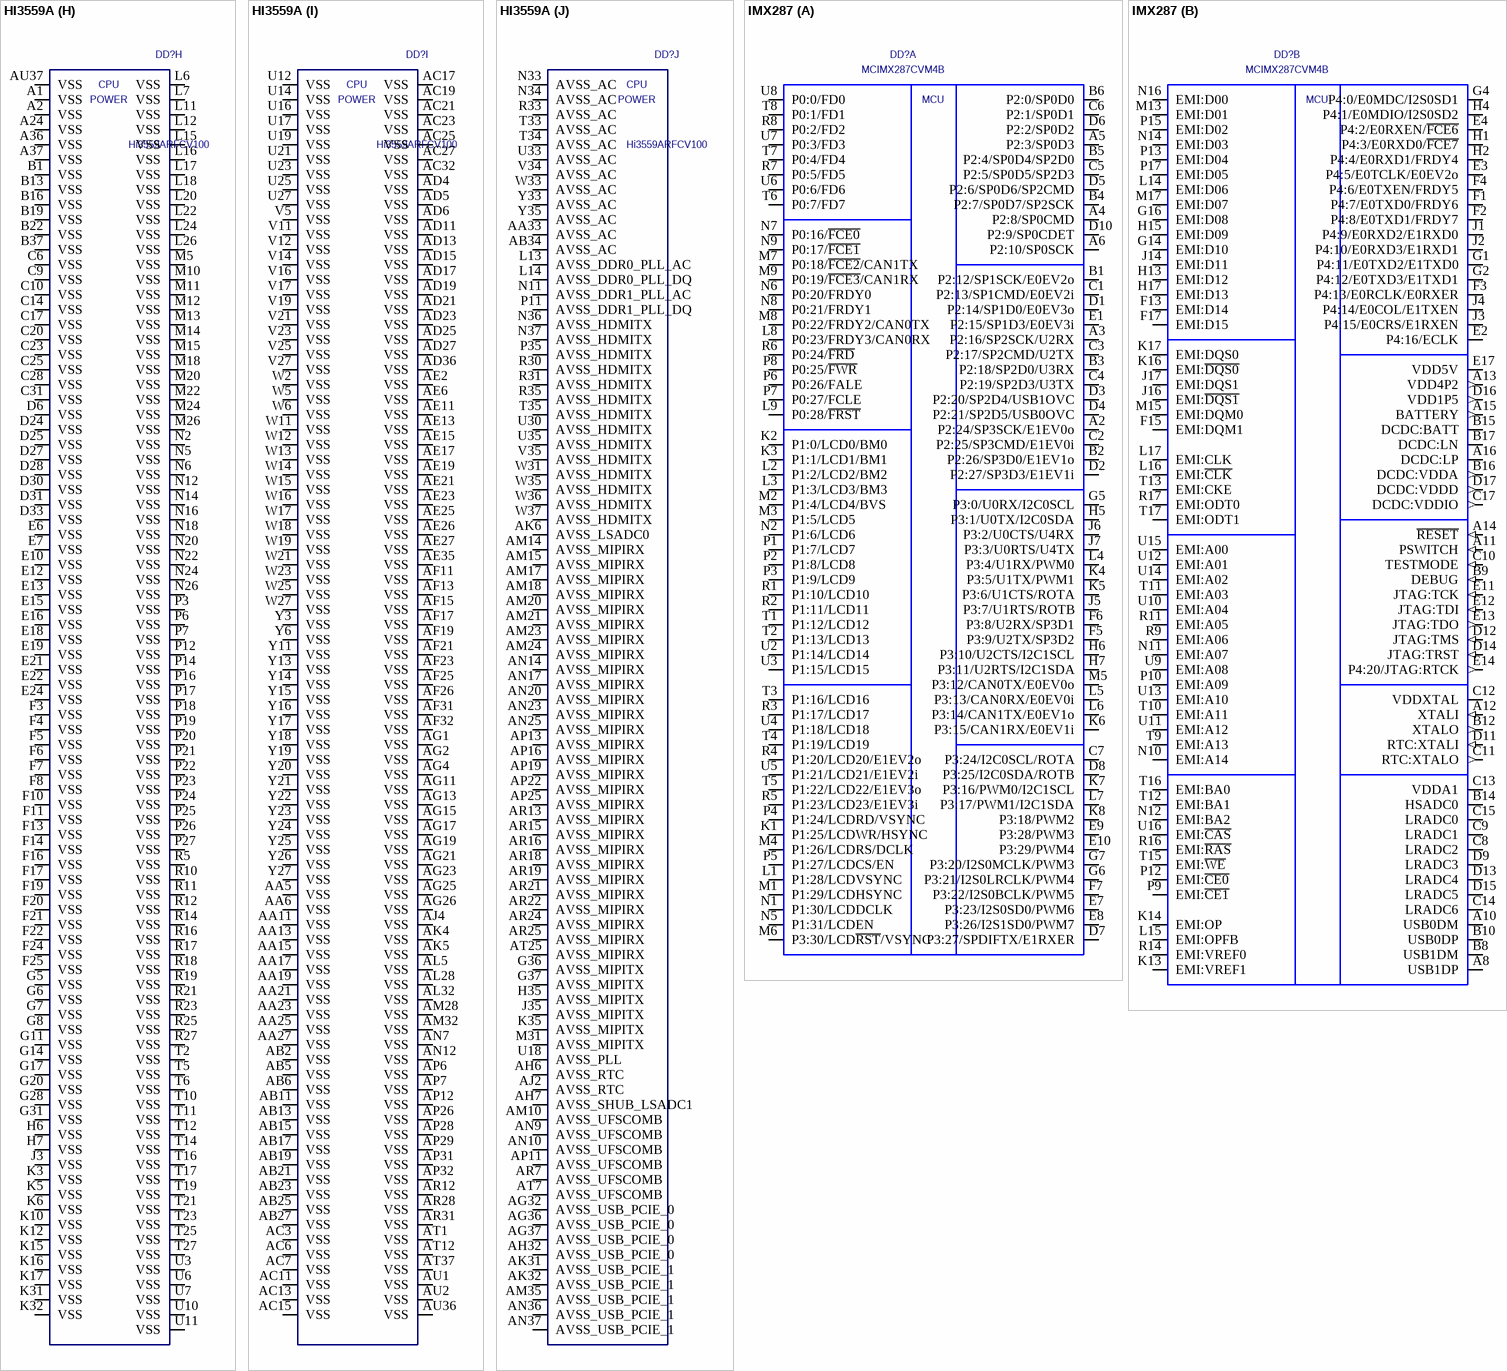
[diagram p4: symbols HI3559A to IMX287]